# EAGLE library part 38720-6308 (library Conn - Rect - Headers,Male Pins)
PCB Mount Barrier Block, 8-Position 0.375", Screws Series: 38720 14-22AWG 15A 300V From Molex Drawing SO-38720-002, Rev A
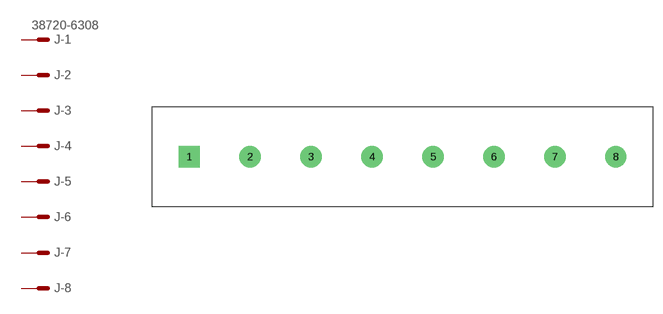
[diagram p3: symbol with the pads of BARRIERBLOCK_PCB8; footprint BARRIERBLOCK_PCB8]

Designator prefix J; gates -1=MV -2=M -3=M -4=M -5=M -6=M -7=M -8=M

## 38720-6308  [BARRIERBLOCK_PCB8]
1  -1:S  pas
2  -2:S  pas
3  -3:S  pas
4  -4:S  pas
5  -5:S  pas
6  -6:S  pas
7  -7:S  pas
8  -8:S  pas

## Footprint BARRIERBLOCK_PCB8 (pad centres in mm)
drill 1.778 pad 3.302 square: 1 -33.337,0
drill 1.778 pad 3.302: 2 -23.812,0; 3 -14.287,0; 4 -4.763,0; 5 4.763,0; 6 14.287,0; 7 23.812,0; 8 33.337,0